# EAGLE library part POT-DUAL (library audioint)
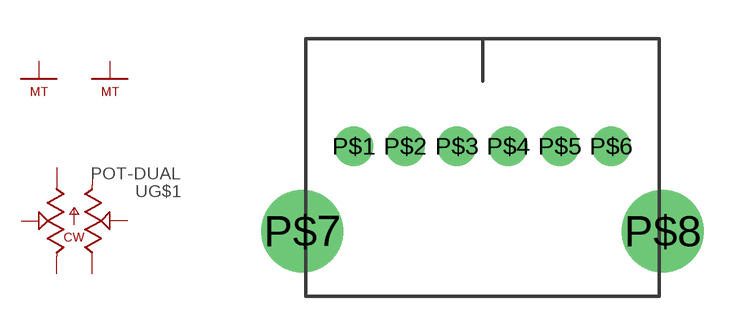
[diagram p1: symbol with the pads of POT/DUAL/VERT; footprint POT/DUAL/VERT]

Designator prefix -; gates G$1=POT-DUAL G$2=MECHANICAL G$3=MECHANICAL

## POT-DUALPANASONIC  [POT/DUAL/VERT]
P$1  G$1:A1  pas
P$2  G$1:E  pas
P$3  G$1:S  pas
P$4  G$1:A  pas
P$5  G$1:E1  pas
P$6  G$1:S1  pas
P$7  G$2:MT  pas
P$8  G$3:MT  pas

## Footprint POT/DUAL/VERT (pad centres in mm)
drill 0.914 pad 1.524 round: P$1 -5,0; P$2 -3,0; P$3 -1,0; P$4 1,0; P$5 3,0; P$6 5,0
drill 2.108 pad 3.2 round: P$7 -7,-3.3; P$8 7,-3.3